# Altium footprint library Custom.PcbLib: 446 footprints (part 27 of 28)
Each footprint in its own frame and in the unit in brackets; x right, y up, seen from the top. Pads: shape width x height; smd on the part's side, far side on the other; paste and mask are expansions set on the pad; w line width, h text height; cw(c..) or ccw(c..) is an arc to the next point about the centre after c.
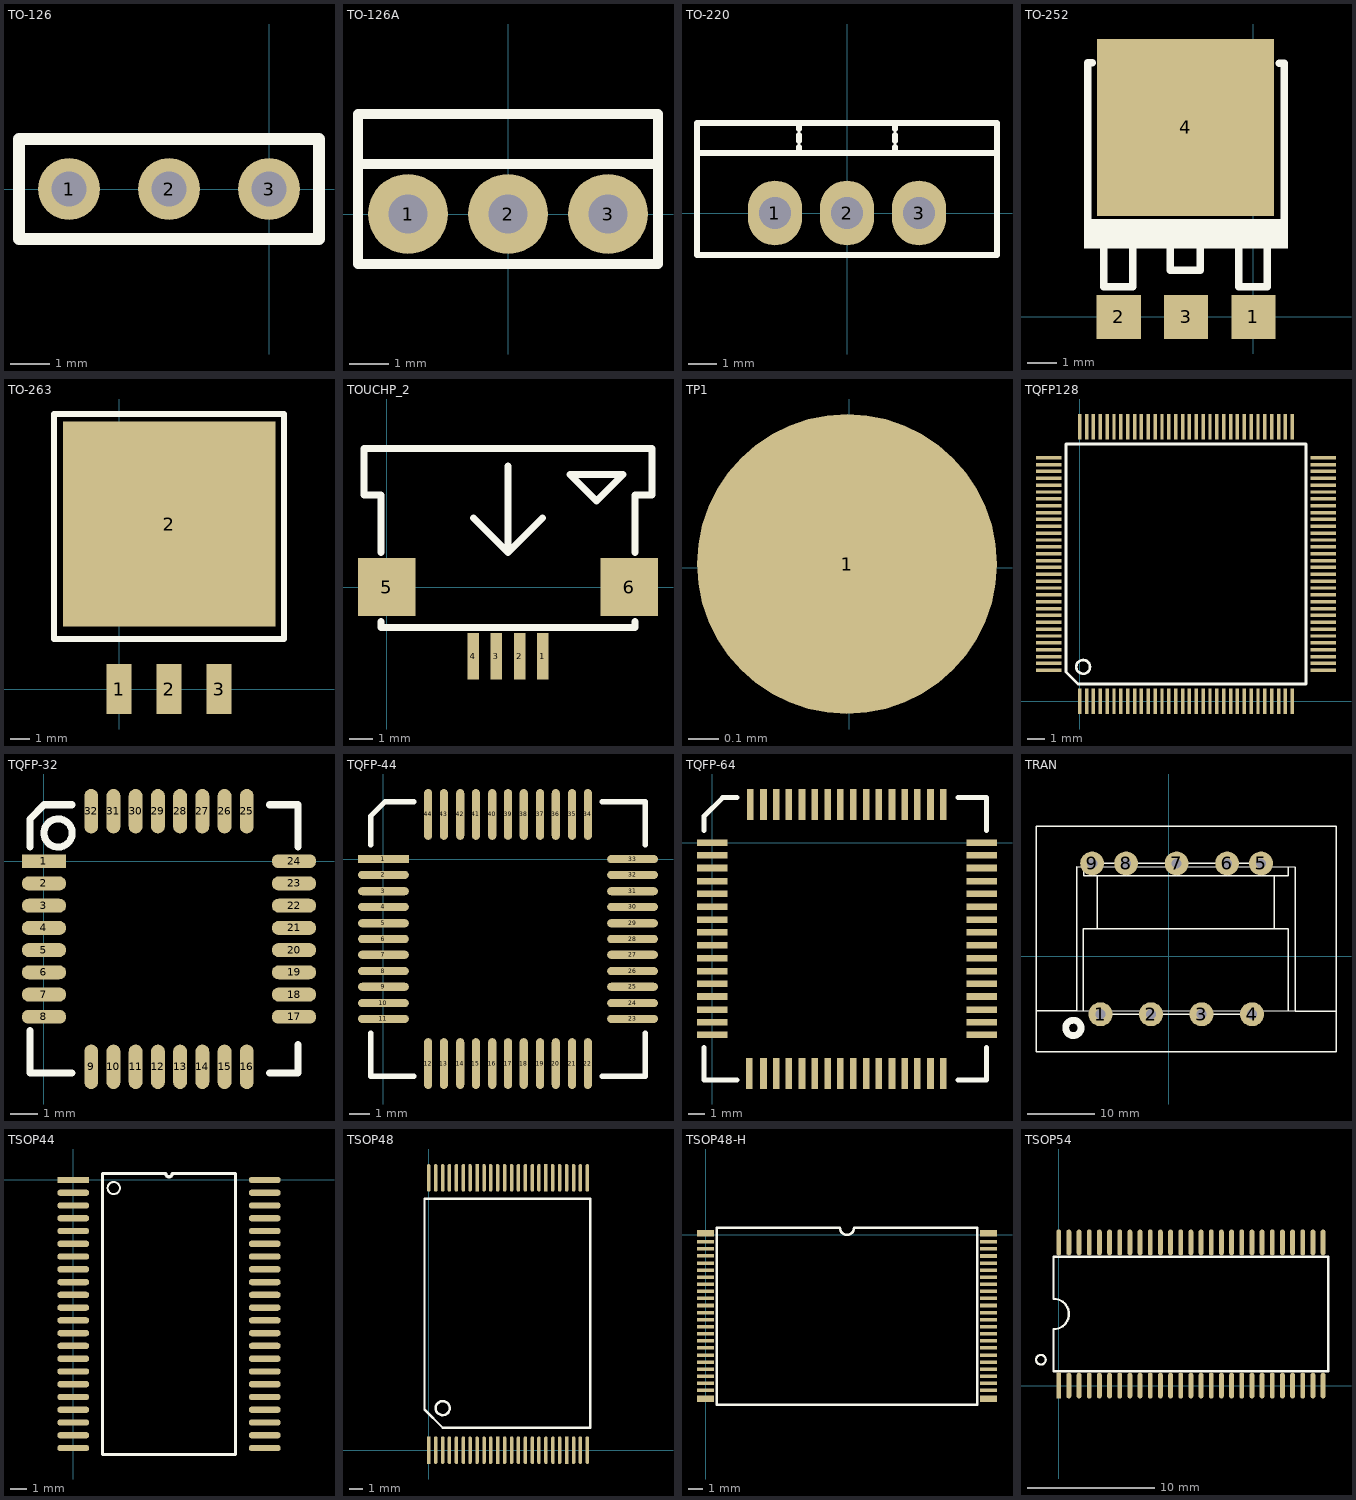
[diagram p26: the footprints below, top view; thin cyan lines are the x and y axes]

## TO-126 [mil]
pads (3):
  round 62 hole 35.43: 1(-200,0) 2(-100,0) 3(0,0)
Top Overlay:
  lines w12: -250,-50 50,-50 50,50 -250,50 -250,-50

## TO-126A [mil]
pads (3):
  round 80 hole 39: 1(-100,0) 2(0,0) 3(100,0)
Top Overlay:
  lines w10: 150,40 150,100 -150,100 -150,50 ; -150,50 -150,-50 150,-50 150,50 -150,50

## TO-220 [mil]
pads (3):
  oval 75x90 hole 45: 1(-100,0) 2(0,0) 3(100,0)
Top Overlay:
  lines w7.87: -66.67,83.33 -66.67,91.67 ; -66.67,100 -66.67,108.33 ; -66.67,116.67 -66.67,125 ; 66.67,83.33 66.67,91.67 ; 66.67,100 66.67,108.33 ; 66.67,116.67 66.67,125 ; -208.33,83.33 -208.33,125 208.33,125 208.33,83.33 ; -208.33,83.33 -208.33,-58.33 208.33,-58.33 208.33,83.33 ; -208.33,83.33 208.33,83.33

## TO-252 [mm]
pads (4):
  rect 1.5x1.5 smd: 1(0.013,-0.006) 2(-4.559,-0.006) 3(-2.273,-0.006)
  rect 6x6 smd: 4(-2.287,6.419)
Top Overlay:
  rectangle: -5.74,2.318 1.19,3.318
  lines w0.254: -5.612,3.144 -5.612,8.619 ; -5.587,8.619 -5.462,8.619 ; -5.062,2.269 -5.062,1.019 -4.087,1.019 -4.087,2.294 ; -2.812,2.269 -2.812,1.569 -1.787,1.569 -1.787,2.369 ; -0.487,2.269 -0.487,1.019 0.488,1.019 ; 0.488,2.294 0.488,1.019 ; 0.888,8.594 1.038,8.594 ; 1.063,3.169 1.063,8.594 ; 0.488,1.019 0.488,1.019

## TO-263 [mil]
pads (4):
  rect 50x100 smd: 1(0,0) 2(100,0) 3(200,0)
  rect 425x410 smd: 2(100,330)
Top Overlay:
  lines w11.81: -130,100 -130,550 330,550 330,100 -130,100

## TOUCHP_2 [mm]
pads (6):
  rect 0.5x2 smd: 1(6.75,-3) 2(5.75,-3) 3(4.75,-3) 4(3.75,-3)
  rect 2.5x2.5 smd: 5(0,0) 6(10.5,0)
Top Overlay:
  lines w0.305: -0.25,-1.5 -0.25,-1.75 10.75,-1.75 10.75,-1.5 ; -0.25,1.5 -0.25,4 -1,4 -1,6 11.5,6 11.5,4 10.75,4 10.75,1.5 ; 3.75,3 5.25,1.5 ; 5.25,5.25 5.25,1.5 ; 6.75,3 5.25,1.5 ; 7.941,4.874 8.068,4.874 10.227,4.874 9.084,3.731 7.941,4.874

## TP1 [mm]
pads (1):
  round 1 smd: 1(-0.008,0.012)

## TQFP128 [mm]
pads (128):
  rect 0.203x1.5 smd: 1(0,0) 2(0.4,0) 3(0.8,0) 4(1.2,0) 5(1.6,0) 6(2,0) 7(2.4,0) 8(2.8,0) 9(3.2,0) 10(3.6,0) 11(4,0) 12(4.4,0) 13(4.8,0) 14(5.2,0) 15(5.6,0) 16(6,0) 17(6.4,0) 18(6.8,0) 19(7.2,0) 20(7.6,0) 21(8,0) 22(8.4,0) 23(8.8,0) 24(9.2,0) 25(9.6,0) 26(10,0) 27(10.4,0) 28(10.8,0) 29(11.2,0) 30(11.6,0) 31(12,0) 32(12.4,0) 65(12.4,16) 66(12,16) 67(11.6,16) 68(11.2,16) 69(10.8,16) 70(10.4,16) 71(10,16) 72(9.6,16) 73(9.2,16) 74(8.8,16) 75(8.4,16) 76(8,16) 77(7.6,16) 78(7.2,16) 79(6.8,16) 80(6.4,16) 81(6,16) 82(5.6,16) 83(5.2,16) 84(4.8,16) 85(4.4,16) 86(4,16) 87(3.6,16) 88(3.2,16) 89(2.8,16) 90(2.4,16) 91(2,16) 92(1.6,16) 93(1.2,16) 94(0.8,16) 95(0.4,16) 96(0,16)
  rect 1.5x0.203 smd: 33(14.2,1.8) 34(14.2,2.2) 35(14.2,2.6) 36(14.2,3) 37(14.2,3.4) 38(14.2,3.8) 39(14.2,4.2) 40(14.2,4.6) 41(14.2,5) 42(14.2,5.4) 43(14.2,5.8) 44(14.2,6.2) 45(14.2,6.6) 46(14.2,7) 47(14.2,7.4) 48(14.2,7.8) 49(14.2,8.2) 50(14.2,8.6) 51(14.2,9) 52(14.2,9.4) 53(14.2,9.8) 54(14.2,10.2) 55(14.2,10.6) 56(14.2,11) 57(14.2,11.4) 58(14.2,11.8) 59(14.2,12.2) 60(14.2,12.6) 61(14.2,13) 62(14.2,13.4) 63(14.2,13.8) 64(14.2,14.2) 97(-1.8,14.2) 98(-1.8,13.8) 99(-1.8,13.4) 100(-1.8,13) 101(-1.8,12.6) 102(-1.8,12.2) 103(-1.8,11.8) 104(-1.8,11.4) 105(-1.8,11) 106(-1.8,10.6) 107(-1.8,10.2) 108(-1.8,9.8) 109(-1.8,9.4) 110(-1.8,9) 111(-1.8,8.6) 112(-1.8,8.2) 113(-1.8,7.8) 114(-1.8,7.4) 115(-1.8,7) 116(-1.8,6.6) 117(-1.8,6.2) 118(-1.8,5.8) 119(-1.8,5.4) 120(-1.8,5) 121(-1.8,4.6) 122(-1.8,4.2) 123(-1.8,3.8) 124(-1.8,3.4) 125(-1.8,3) 126(-1.8,2.6) 127(-1.8,2.2) 128(-1.8,1.8)
Top Overlay:
  circle w0.15: c0.2,2 r0.4
  lines w0.15: -0.8,1.7 -0.2,1.1 -0.1,1 13.2,1 13.2,15 -0.8,15 -0.8,1.7

## TQFP-32 [mm]
pads (32):
  rect 1.6x0.5 smd: 1(0,0)
  oval 1.6x0.5 smd: 2(0,-0.8) 3(0,-1.6) 4(0,-2.4) 5(0,-3.2) 6(0,-4) 7(0,-4.8) 8(0,-5.6) 17(9,-5.6) 18(9,-4.8) 19(9,-4) 20(9,-3.2) 21(9,-2.4) 22(9,-1.6) 23(9,-0.8) 24(9,0)
  oval 0.5x1.6 smd: 9(1.7,-7.4) 10(2.5,-7.4) 11(3.3,-7.4) 12(4.1,-7.4) 13(4.9,-7.4) 14(5.7,-7.4) 15(6.5,-7.4) 16(7.3,-7.4) 25(7.3,1.8) 26(6.5,1.8) 27(5.7,1.8) 28(4.9,1.8) 29(4.1,1.8) 30(3.3,1.8) 31(2.5,1.8) 32(1.7,1.8)
Top Overlay:
  circle w0.254: c0.508,1.016 r0.508
  lines w0.254: -0.508,-7.112 -0.508,-6.096 ; -0.508,-6.604 -0.508,-7.62 1.016,-7.62 ; -0.508,0.508 -0.508,1.524 0,2.032 0.508,2.032 1.016,2.032 ; 8.128,-7.62 9.144,-7.62 9.144,-6.604 ; 8.128,2.032 9.144,2.032 9.144,0.508

## TQFP-44 [mil]
pads (44):
  rect 100x16 smd: 1(0,0)
  oval 100x16 smd: 2(0,-31) 3(0,-63) 4(0,-94) 5(0,-126) 6(0,-157) 7(0,-188) 8(0,-220) 9(0,-251) 10(0,-283) 11(0,-314) 23(490,-314) 24(490,-283) 25(490,-251) 26(490,-220) 27(490,-188) 28(490,-157) 29(490,-126) 30(490,-94) 31(490,-63) 32(490,-31) 33(490,0)
  oval 16x100 smd: 12(88,-402) 13(119,-402) 14(151,-402) 15(182,-402) 16(214,-402) 17(245,-402) 18(276,-402) 19(308,-402) 20(339,-402) 21(371,-402) 22(402,-402) 34(402,88) 35(371,88) 36(339,88) 37(308,88) 38(276,88) 39(245,88) 40(214,88) 41(182,88) 42(151,88) 43(119,88) 44(88,88)
Top Overlay:
  lines w10: -25,-342 -25,-427 60,-427 ; -25,28 -25,85 3,113 60,113 ; 430,-427 515,-427 515,-342 ; 430,113 515,113 515,28

## TQFP-64 [mil]
pads (64):
  rect 75x16 smd: 1(0,0) 2(0,-31) 3(0,-62) 4(0,-94) 5(0,-125) 6(0,-157) 7(0,-188) 8(0,-219) 9(0,-251) 10(0,-282) 11(0,-314) 12(0,-345) 13(0,-376) 14(0,-408) 15(0,-439) 16(0,-470) 33(658,-469.79) 34(658,-439) 35(658,-408) 36(658,-376) 37(658,-345) 38(658,-314) 39(658,-282) 40(658,-251) 41(658,-219) 42(658,-188) 43(658,-157) 44(658,-125) 45(658,-94) 46(658,-62) 47(658,-31) 48(658,0)
  rect 16x75 smd: 17(90,-564) 18(125,-564) 19(156,-564) 20(187,-564) 21(219,-564) 22(250,-564) 23(282,-564) 24(313,-564) 25(344,-564) 26(376,-564) 27(407,-564) 28(439,-564) 29(470,-564) 30(501,-564) 31(533,-564) 32(564,-564) 49(564,93) 50(533,93) 51(501,93) 52(470,93) 53(439,93) 54(407,93) 55(376,93) 56(344,93) 57(313,93) 58(282,93) 59(250,93) 60(219,93) 61(187,93) 62(156,93) 63(125,93) 64(93,93)
Top Overlay:
  lines w12: -20,-500 -20,-580 60,-580 ; -20,30 -20,65 25,110 60,110 ; 600,-580 670,-580 670,-500 ; 600,110 670,110 670,30

## TRAN [mil]
pads (9):
  round 140 hole 60: 1(-400,-340) 2(-104,-340) 3(192,-340) 4(488,-340) 5(541,544) 6(342,544) 7(46,544) 8(-250,544) 9(-449,544)
Top Overlay:
  circle w40: c-559.1,-420 r45.1
  lines w8: -778,-319 -540,-319 ; -500,-318 -500,160 -460,160 660,160 699,160 699,-321 ; -498,523 -498,471 698,471 699,472 699,521 ; -450,544 541,544 ; -420,160 -420,469 ; -402,-340 488,-340 ; 617,160 617,470 ; 980,-321 742,-321 ; -540,-319 -540,523 742,521 742,-321 ; -540,-319 742,-321 ; -778,-561 980,-561 980,763 -778,763 -778,-561

## TSOP44 [mm]
pads (44):
  rect 2x0.4 smd: 1(0,0)
  oval 2x0.4 smd: 2(0,-0.8) 3(0,-1.6) 4(0,-2.4) 5(0,-3.2) 6(0,-4) 7(0,-4.8) 8(0,-5.6) 9(0,-6.4) 10(0,-7.2) 11(0,-8) 12(0,-8.8) 13(0,-9.6) 14(0,-10.4) 15(0,-11.2) 16(0,-12) 17(0,-12.8) 18(0,-13.6) 19(0,-14.4) 20(0,-15.2) 21(0,-16) 22(0,-16.8) 23(12,-16.8) 24(12,-16) 25(12,-15.2) 26(12,-14.4) 27(12,-13.6) 28(12,-12.8) 29(12,-12) 30(12,-11.2) 31(12,-10.4) 32(12,-9.6) 33(12,-8.8) 34(12,-8) 35(12,-7.2) 36(12,-6.4) 37(12,-5.6) 38(12,-4.8) 39(12,-4) 40(12,-3.2) 41(12,-2.4) 42(12,-1.6) 43(12,-0.8) 44(12,0)
Top Overlay:
  circle w0.127: c2.54,-0.508 r0.381
  lines w0.203: 1.838,-17.2 10.162,-17.2 10.162,0.4 6.2,0.4 cw(c6,0.4) 5.8,0.4 1.838,0.4 1.838,-17.2

## TSOP48 [mil]
pads (48):
  rect 10x79 smd: 1(0,0) 11(197,0.02) 21(394,0.02) 31(335,778) 41(138,778.02)
  oval 10x79 smd: 2(20,0.02) 3(40,0.02) 4(59,0.02) 5(79,0.02) 6(99,0.02) 7(118,0.02) 8(138,0.02) 9(158,0.02) 10(177,0) 12(217,0.02) 13(237,0.02) 14(256,0.02) 15(276,0.02) 16(296,0.02) 17(315,0.02) 18(335,0.02) 19(355,0.02) 20(374,0) 22(414,0.02) 23(433,0.02) 24(453,0.02) 25(453,778.02) 26(433,778.02) 27(414,778.02) 28(394,778.02) 29(374,778) 30(354,778) 32(315,778.02) 33(296,778.02) 34(276,778.02) 35(256,778.02) 36(237,778.02) 37(217,778.02) 38(197,778.02) 39(177,778.02) 40(158,778) 42(118,778.02) 43(99,778.02) 44(79,778.02) 45(59,778.02) 46(40,778.02) 47(20,778.02) 48(0,778.02)
Top Overlay:
  circle w7: c40,120 r20
  lines w7: -12,116.02 40,64.02 461,64.02 461,718.02 -12,718.02 -12,116.02

## TSOP48-H [mm]
pads (48):
  rect 1.2x0.45 smd: 1(-0.021,0.108) 24(-0.021,-11.592) 25(19.979,-11.592) 48(19.979,0.108)
  rect 1.2x0.25 smd: 2(-0.021,-0.492) 3(-0.021,-0.992) 4(-0.021,-1.492) 5(-0.021,-1.992) 6(-0.021,-2.492) 7(-0.021,-2.992) 8(-0.021,-3.492) 9(-0.021,-3.992) 10(-0.021,-4.492) 11(-0.021,-4.992) 12(-0.021,-5.492) 13(-0.021,-5.992) 14(-0.021,-6.492) 15(-0.021,-6.992) 16(-0.021,-7.492) 17(-0.021,-7.992) 18(-0.021,-8.492) 19(-0.021,-8.992) 20(-0.021,-9.492) 21(-0.021,-9.992) 22(-0.021,-10.492) 23(-0.021,-10.992) 26(19.979,-10.992) 27(19.979,-10.492) 28(19.979,-9.992) 29(19.979,-9.492) 30(19.979,-8.992) 31(19.979,-8.492) 32(19.979,-7.992) 33(19.979,-7.492) 34(19.979,-6.992) 35(19.979,-6.492) 36(19.979,-5.992) 37(19.979,-5.492) 38(19.979,-4.992) 39(19.979,-4.492) 40(19.979,-3.992) 41(19.979,-3.492) 42(19.979,-2.992) 43(19.979,-2.492) 44(19.979,-1.992) 45(19.979,-1.492) 46(19.979,-0.992) 47(19.979,-0.492)
Top Overlay:
  lines w0.178: 0.779,-11.992 19.179,-11.992 19.179,0.508 10.479,0.508 cw(c9.979,0.508) 9.479,0.508 0.779,0.508 0.779,-11.992

## TSOP54 [mil]
pads (54):
  rect 15x80 smd: 1(0,0)
  oval 15x80 smd: 2(31.5,0) 3(62.99,0) 4(94.49,0) 5(125.98,0) 6(157.48,0) 7(188.98,0) 8(220.47,0) 9(251.97,0) 10(283.47,0) 11(314.96,0) 12(346.46,0) 13(377.95,0) 14(409.45,0) 15(440.94,0) 16(472.44,0) 17(503.94,0) 18(535.43,0) 19(566.93,0) 20(598.43,0) 21(629.92,0) 22(661.42,0) 23(692.91,0) 24(724.41,0) 25(755.91,0) 26(787.4,0) 27(818.9,0) 28(818.9,443.31) 29(787.4,443.31) 30(755.91,443.31) 31(724.41,443.31) 32(692.91,443.31) 33(661.42,443.31) 34(629.92,443.31) 35(598.43,443.31) 36(566.93,443.31) 37(535.43,443.31) 38(503.94,443.31) 39(472.44,443.31) 40(440.94,443.31) 41(409.45,443.31) 42(377.95,443.31) 43(346.46,443.31) 44(314.96,443.31) 45(283.47,443.31) 46(251.97,443.31) 47(220.47,443.31) 48(188.98,443.31) 49(157.48,443.31) 50(125.98,443.31) 51(94.49,443.31) 52(62.99,443.31) 53(31.5,443.31) 54(0,443.31)
Top Overlay:
  circle w7: c-55.31,80 r15
  lines w7: -15.75,173.78 -15.75,44.37 834.65,44.37 834.65,398.94 -15.75,398.94 -15.75,269.53 ; -15.75,174.41 ccw(c-15.75,221.65) -15.75,268.9